# Altium schematic symbol library Thyristor.SchLib: 5 symbols
Pins are listed as number, name and electrical type; pins without a type are passive.

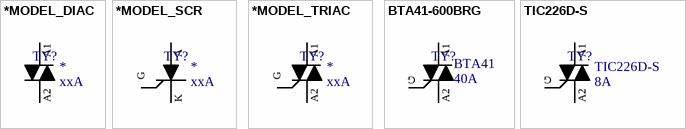
[diagram p0: symbols *MODEL_DIAC to TIC226D-S]

## *MODEL_DIAC
designator TY?, comment Current: xxA  (hidden comment: Part Number)
Description; Mount Type: *; Manufacturer: *; Category: DIAC; Value: *
pins: M1, M2
text: A1; A2

## *MODEL_SCR
designator TY?, comment Current: xxA  (hidden comment: Part Number)
Description; Mount Type: *; Manufacturer: *; Category: SCR; Value: *
pins: G, M1, M2
text: A; K

## *MODEL_TRIAC
designator TY?, comment Current: xxA  (hidden comment: Part Number)
Description; Mount Type: *; Manufacturer: *; Category: TRIAC; Value: *
pins: G, M1, M2
text: A1; A2

## BTA41-600BRG
designator TY?  value BTA41  Current: 40A  (hidden comment: BTA41-600BRG)
TRIAC 40A 600V TOP3 - ISOLADO; Manufacturer: 0000014877 -S.T. MICROELECTRONICS I; Mount Type: PTH; Supplier Description: TRIAC 600V 40A TOP-3; Supplier 1: Mouser; Supplier 2: Farnell; Supplier 3: Digi-Key; Supplier 4: Arrow; Supplier 5: Newark; Supplier Part Number 1: 511-BTA41-600B; Supplier Part Number 2: 1057288; Supplier Part Number 3: 497-2431-5-ND; Supplier Part Number 4: 41318216S6878677N7728; Supplier Part Number 5: 89K1245
footprint TOP3 MODIFICADO
pins: 1 M1, 2 M2, 3 G
text: A1; A2

## TIC226D-S
designator TY?  Current: 8A  (hidden comment: TIC226D-S)
TRIAC 400V 8A TO220; Manufacturer: Bourns Inc.; Mount Type: PTH; Supplier 1: Mouser; Supplier Part Number 1: N/A; Supplier 2: Newark; Supplier Part Number 2: 75K9037; Supplier 3: Digi-Key; Supplier Part Number 3: TIC226D-S-ND; Value: TIC226D-S
footprint TO-220 (TO, Thru-Hole, Vertical, Heatsink Mounted; 3 In-Line Leads; Pitch 2.54 mm)
pins: 1 M1, 2 M2, 3 G
text: A1; A2